# EAGLE library part V__VFDILT1-8M87-IV (library ++Bedrahtet)
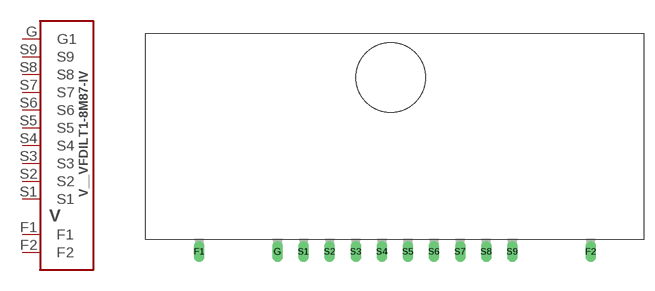
[diagram p44: symbol with the pads of VFD_ILT1-8M; footprint VFD_ILT1-8M]

Designator prefix V

## V__VFDILT1-8M87-IV  [VFD_ILT1-8M]
F1  F1
F2  F2
G  G1
S1  S1
S2  S2
S3  S3
S4  S4
S5  S5
S6  S6
S7  S7
S8  S8
S9  S9

## Footprint VFD_ILT1-8M (pad centres in mm)
drill 1 long: F1 0,0; F2 57.15,0; G 11.43,0; S1 15.24,0; S2 19.05,0; S3 22.86,0; S4 26.67,0; S5 30.48,0; S6 34.29,0; S7 38.1,0; S8 41.91,0; S9 45.72,0